# EAGLE library part LTC3559 (library linear-technology)
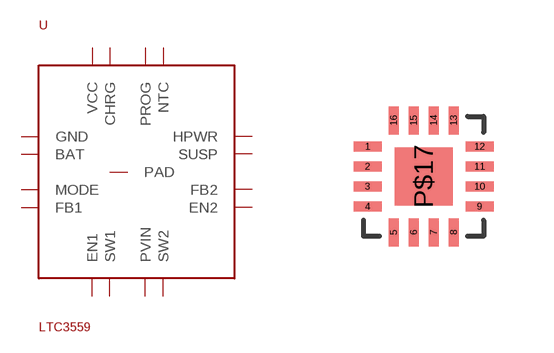
[diagram p34: symbol with the pads of QFN16; footprint QFN16]

Designator prefix -

## LTC3559  [QFN16]
1  GND
2  BAT
3  MODE
4  FB1
5  EN1
6  SW1
7  PVIN
8  SW2
9  EN2
10  FB2
11  SUSP
12  HPWR
13  NTC
14  PROG
15  CHRG
16  VCC
P$17  PAD

## Footprint QFN16 (pad centres in mm)
smd 0.7 x 0.25: 1 -1.4,0.75; 2 -1.4,0.25; 3 -1.4,-0.25; 4 -1.4,-0.75; 9 1.4,-0.75; 10 1.4,-0.25; 11 1.4,0.25; 12 1.4,0.75
smd 0.25 x 0.7: 5 -0.75,-1.4; 6 -0.25,-1.4; 7 0.25,-1.4; 8 0.75,-1.4; 13 0.75,1.4; 14 0.25,1.4; 15 -0.25,1.4; 16 -0.75,1.4
smd 1.45 x 1.45: P$17 0,0